# Altium schematic symbol library TI Operational Amplifier.SchLib: 2 symbols
Pins are listed as number, name and electrical type; pins without a type are passive.

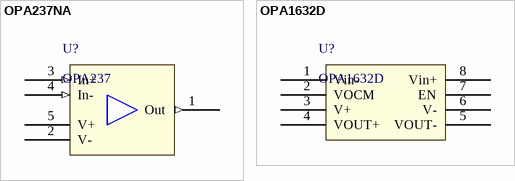
[diagram p0: symbols OPA237NA to OPA1632D]

## OPA237NA
designator U?, comment OPA237
Operational Amplifier; Manufacturer: TI; Manufacturer Part Number: OPA237NA/250
footprint SOT23-6 (SOT23, 5-Leads, Body 2.90x2.45mm, Pitch 0.95mm, IPC Medium Density)
pins: 1 Out (out), 2 V- (power), 3 In+ (in), 4 In- (in), 5 V+ (power)

## OPA1632D
designator U?
Opertaional Amplifier
footprint SOIC8 (SOIC, 8-Leads, Body 4,90x3,90mm, Pitch 1,27mm, IPC Medium Density)
pins: 1 Vin-, 2 VOCM, 3 V+, 4 VOUT+, 5 VOUT-, 6 V-, 7 EN, 8 Vin+